# EAGLE library part MCP73855 (library matriLedWatch)
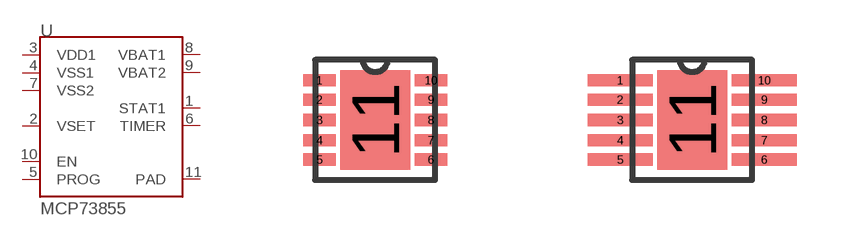
[diagram p4: symbol with the pads of DFN10_3X3MC; footprints DFN10_3X3MC, DFN10_3X3MC_WIDE]

Designator prefix U

## MCP73855-I/MF  [DFN10_3X3MC]
1  STAT1
2  VSET
3  VDD1
4  VSS1
5  PROG
6  TIMER
7  VSS2
8  VBAT1
9  VBAT2
10  EN
11  PAD

## MCP73855  [DFN10_3X3MC_WIDE]
Pads as for DFN10_3X3MC

## Footprint DFN10_3X3MC (pad centres in mm)
smd 0.813 x 0.305: 1 -1.397,0.991; 2 -1.397,0.508; 3 -1.397,0; 4 -1.397,-0.508; 5 -1.397,-0.991; 6 1.397,-0.991; 7 1.397,-0.508; 8 1.397,0; 9 1.397,0.508; 10 1.397,0.991
smd 1.753 x 2.489: 11 0,0

## Footprint DFN10_3X3MC_WIDE (pad centres in mm)
smd 1.626 x 0.305: 1 -1.803,0.991; 2 -1.803,0.508; 3 -1.803,0; 4 -1.803,-0.508; 5 -1.803,-0.991; 6 1.803,-0.991; 7 1.803,-0.508; 8 1.803,0; 9 1.803,0.508; 10 1.803,0.991
smd 1.753 x 2.489: 11 0,0